# Altium footprint library Capacitors SMD.PcbLib: 115 footprints (part 4 of 8)
Each footprint in its own frame and in the unit in brackets; x right, y up, seen from the top. Pads: shape width x height; smd on the part's side, far side on the other; paste and mask are expansions set on the pad; w line width, h text height; cw(c..) or ccw(c..) is an arc to the next point about the centre after c.
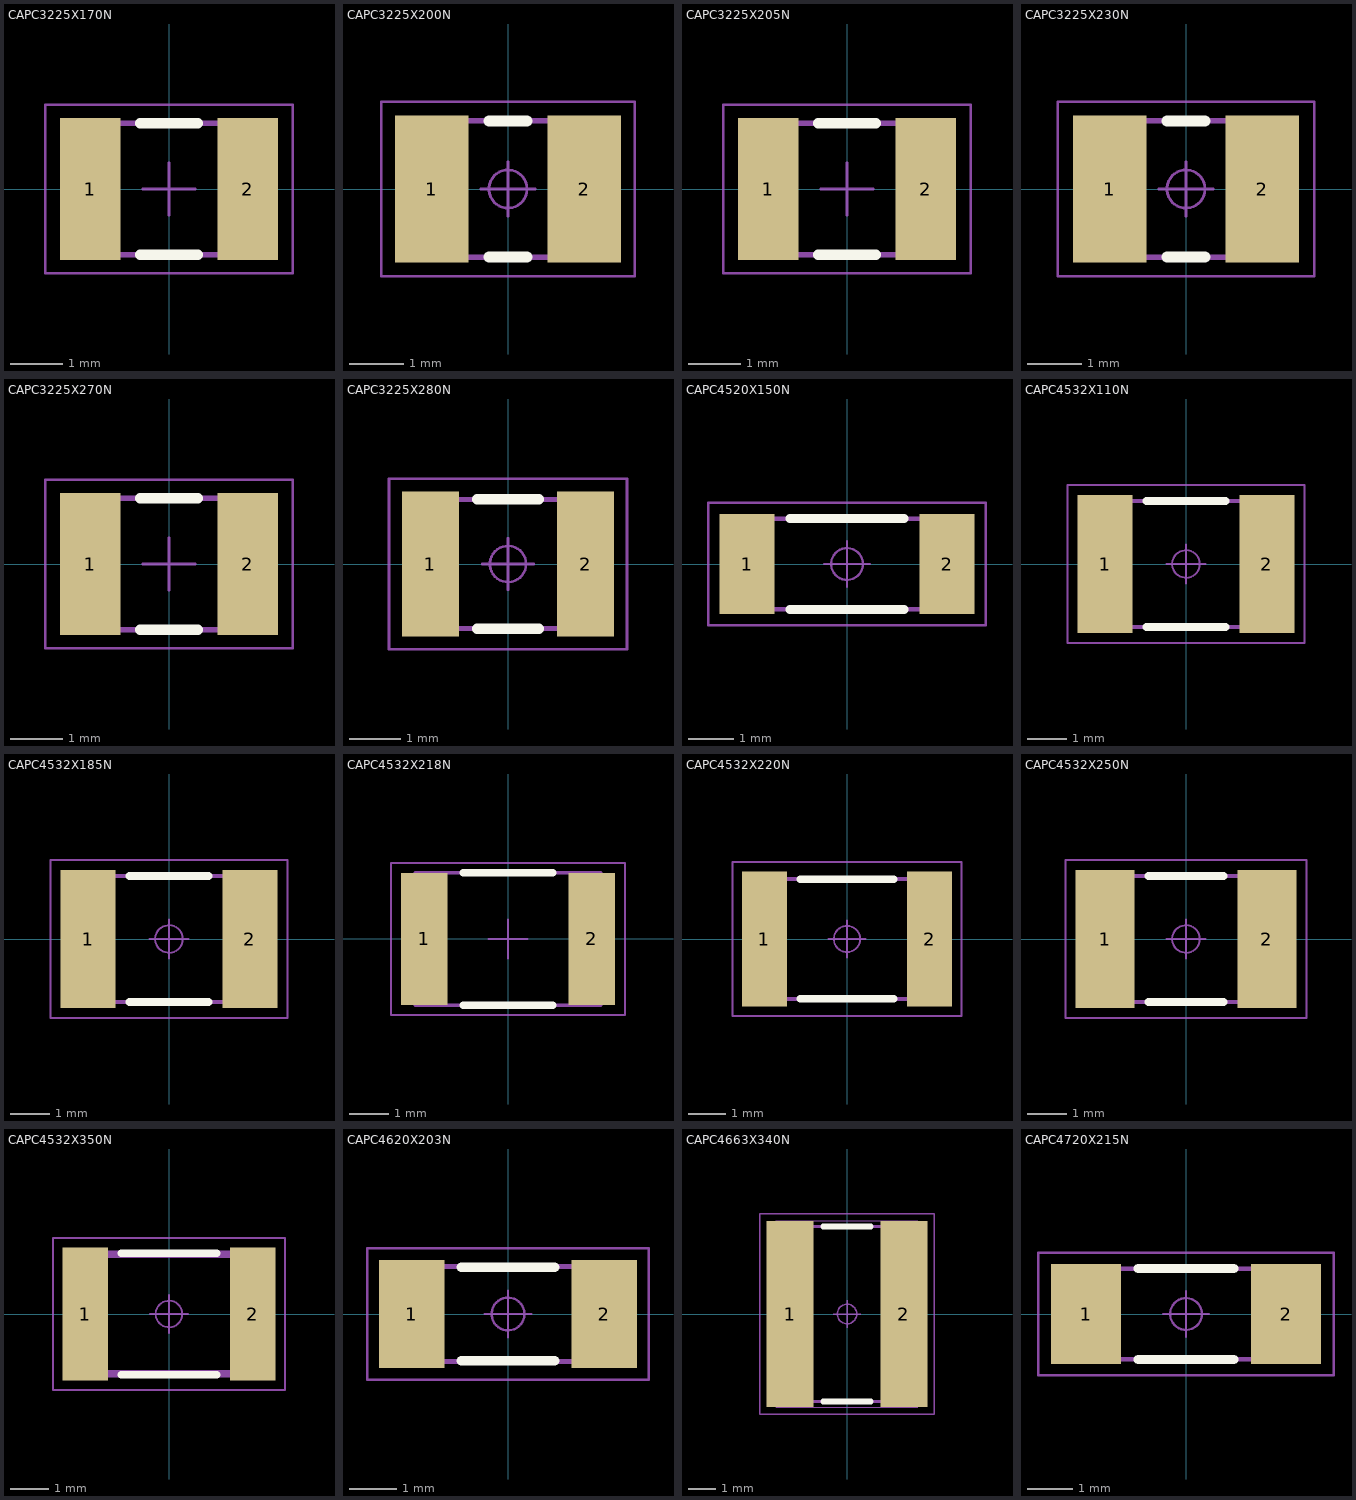
[diagram p3: the footprints below, top view; thin cyan lines are the x and y axes]

## CAPC3225X170N [mm] "Chip Capacitor, Body 3.2x2.5mm, IPC Medium Density"
height 1.7
pads (2):
  rect 1.15x2.7 smd: 1(-1.5,0) 2(1.5,0)
Top Overlay:
  lines w0.2: -0.55,-1.25 0.55,-1.25 ; -0.55,1.25 0.55,1.25
Mechanical 14:
  lines w0.1: -1.6,-1.25 1.6,-1.25 1.6,1.25 -1.6,1.25 -1.6,-1.25
Mechanical 15:
  lines w0.05: -0.5,0 0,0 ; 0,-0.5 0,0 ; 0,0.5 0,0 ; 0.5,0 0,0 ; -2.35,-1.6 2.35,-1.6 2.35,1.6 -2.35,1.6 -2.35,-1.6
3D body "CAPC3225X170N.stp": height 1.7, standoff 0, extent -1.7,-1.35 1.7,1.35

## CAPC3225X200N [mm] "Chip Capacitor, Body 3.2x2.5mm, IPC Medium Density"
height 2
pads (2):
  rect 1.35x2.7 smd: 1(-1.4,0) 2(1.4,0)
Top Overlay:
  lines w0.2: -0.35,-1.25 0.35,-1.25 ; -0.35,1.25 0.35,1.25
Mechanical 14:
  lines w0.1: -1.6,-1.25 1.6,-1.25 1.6,1.25 -1.6,1.25 -1.6,-1.25
Mechanical 15:
  circle w0.05: c0,0 r0.35
  lines w0.05: -0.5,0 0.5,0 ; 0,-0.5 0,0.5 ; -2.325,-1.6 2.325,-1.6 2.325,1.6 -2.325,1.6 -2.325,-1.6
3D body "CAPC3225X200N.stp": height 2, standoff 0, extent -1.7,-1.35 1.5,1.35

## CAPC3225X205N [mm] "Chip Capacitor, Body 3.2x2.5mm, IPC Medium Density"
height 2.05
pads (2):
  rect 1.15x2.7 smd: 1(-1.5,0) 2(1.5,0)
Top Overlay:
  lines w0.2: -0.55,-1.25 0.55,-1.25 ; -0.55,1.25 0.55,1.25
Mechanical 14:
  lines w0.1: -1.6,-1.25 1.6,-1.25 1.6,1.25 -1.6,1.25 -1.6,-1.25
Mechanical 15:
  lines w0.05: -2.35,-1.6 -2.35,1.6 2.35,1.6 2.35,-1.6 -2.35,-1.6 ; -0.5,0 0.5,0 -0.5,0 ; 0,-0.5 0,0.5 0,-0.5
3D body "CAPC3225X205N.stp": height 2.05, standoff 0, extent -1.7,-1.35 1.7,1.35

## CAPC3225X230N [mm] "Chip Capacitor, Body 3.2x2.5mm, IPC Medium Density"
height 2.3
pads (2):
  rect 1.35x2.7 smd: 1(-1.4,0) 2(1.4,0)
Top Overlay:
  lines w0.2: -0.35,-1.25 0.35,-1.25 ; -0.35,1.25 0.35,1.25
Mechanical 14:
  lines w0.1: -1.6,-1.25 1.6,-1.25 1.6,1.25 -1.6,1.25 -1.6,-1.25
Mechanical 15:
  circle w0.05: c0,0 r0.35
  lines w0.05: -0.5,0 0.5,0 ; 0,-0.5 0,0.5 ; -2.35,-1.6 2.35,-1.6 2.35,1.6 -2.35,1.6 -2.35,-1.6
3D body "CAPC3225X230N.stp": height 2.3, standoff 0, extent -1.7,-1.35 1.7,1.35

## CAPC3225X270N [mm] "Chip Capacitor, Body 3.2x2.5mm, IPC Medium Density"
height 2.7
pads (2):
  rect 1.15x2.7 smd: 1(-1.5,0) 2(1.5,0)
Top Overlay:
  lines w0.2: -0.55,-1.25 0.55,-1.25 ; -0.55,1.25 0.55,1.25
Mechanical 14:
  lines w0.1: -1.6,-1.25 1.6,-1.25 1.6,1.25 -1.6,1.25 -1.6,-1.25
Mechanical 15:
  lines w0.05: -2.35,-1.6 -2.35,1.6 2.35,1.6 2.35,-1.6 -2.35,-1.6 ; -0.5,0 0.5,0 -0.5,0 ; 0,-0.5 0,0.5 0,-0.5
3D body "CAPC3225X270N.stp": height 2.7, standoff 0, extent -1.7,-1.35 1.7,1.35

## CAPC3225X280N [mm] "Chip Capacitor, Body 3.2x2.5mm, IPC Medium Density"
height 2.8
pads (2):
  rect 1.1x2.8 smd: 1(-1.5,0) 2(1.5,0)
Top Overlay:
  lines w0.2: -0.6,-1.25 0.6,-1.25 ; -0.6,1.25 0.6,1.25
Mechanical 14:
  lines w0.1: -1.6,-1.25 1.6,-1.25 1.6,1.25 -1.6,1.25 -1.6,-1.25
Mechanical 15:
  circle w0.05: c0,0 r0.35
  lines w0.05: -0.5,0 0.5,0 ; 0,-0.5 0,0.5 ; -2.3,-1.65 2.3,-1.65 2.3,1.65 -2.3,1.65 -2.3,-1.65
3D body "CAPC3225X280N.stp": height 2.8, standoff 0, extent -1.7,-1.35 1.7,1.35

## CAPC4520X150N [mm] "Capacitor, Non-Polarized, Chip;4.50mm L X 2.00mm W X 1.50mm H, IPC Medium Density"
height 1.5
pads (2):
  rect 1.2x2.2 smd: 1(-2.2,0) 2(2.2,0)
Top Overlay:
  lines w0.2: -1.25,-1 1.25,-1 ; -1.25,1 1.25,1
Mechanical 14:
  lines w0.1: -2.25,-1 -2.25,1 2.25,1 2.25,-1 -2.25,-1
Mechanical 15:
  circle w0.05: c0,0 r0.35
  lines w0.05: -0.5,0 0.5,0 ; 0,-0.5 0,0.5 ; -3.05,-1.35 -3.05,1.35 3.05,1.35 3.05,-1.35 -3.05,-1.35
3D body "CAPC4520X150N.stp": height 1.5, standoff 0, extent -2.25,-1 2.25,1

## CAPC4532X110N [mm] "Chip Capacitor, 2-Leads, Body 4.5x3.2mm, IPC Medium Density"
height 1.1
pads (2):
  rect 1.4x3.5 smd: 1(-2.05,0) 2(2.05,0)
Top Overlay:
  lines w0.2: -1,-1.6 1,-1.6 ; -1,1.6 1,1.6
Mechanical 14:
  lines w0.1: -2.25,-1.6 -2.25,1.6 2.25,1.6 2.25,-1.6 -2.25,-1.6
Mechanical 15:
  circle w0.05: c0,0 r0.35
  lines w0.05: -0.5,0 0.5,0 ; 0,-0.5 0,0.5 ; -3,-2 -3,2 3,2 3,-2 -3,-2
3D body "CAPC4532X110N.stp": height 1.1, standoff 0, extent -2.25,-1.6 2.25,1.6

## CAPC4532X185N [mm] "Chip Capacitor, 2-Leads, Body 4.5x3.2mm, IPC Medium Density"
height 1.85
pads (2):
  rect 1.4x3.5 smd: 1(-2.05,0) 2(2.05,0)
Top Overlay:
  lines w0.2: -1,-1.6 1,-1.6 ; -1,1.6 1,1.6
Mechanical 14:
  lines w0.1: -2.25,-1.6 2.25,-1.6 2.25,1.6 -2.25,1.6 -2.25,-1.6
Mechanical 15:
  circle w0.05: c0,0 r0.35
  lines w0.05: -0.5,0 0.5,0 ; 0,-0.5 0,0.5 ; -3,-2 3,-2 3,2 -3,2 -3,-2
3D body "CAPC4532X185N.stp": height 1.85, standoff 0, extent -2.25,-1.6 2.25,1.6

## CAPC4532X218N [mm] "Chip Capacitor, 2-Leads, Body 4.5x3.2mm, IPC Medium Density"
height 2.18
pads (2):
  rect 1.2x3.4 smd: 1(-2.15,0) 2(2.15,0)
Top Overlay:
  lines w0.2: -1.15,-1.7 1.15,-1.7 ; -1.15,1.7 1.15,1.7
Mechanical 14:
  lines w0.1: -2.375,-1.7 2.375,-1.7 2.375,1.7 -2.375,1.7 -2.375,-1.7
Mechanical 15:
  lines w0.05: -0.5,0 0.5,0 ; 0,-0.5 0,0.5 ; -3,-1.95 3,-1.95 3,1.95 -3,1.95 -3,-1.95
3D body "CAPC4532X218N.stp": height 2.18, standoff 0, extent -2.375,-1.7 2.375,1.7

## CAPC4532X220N [mm] "Capacitor, Non-Polarized, Chip; 4.50mm L X 3.20mm W X 2.20mm H, IPC Medium Density"
height 2.2
pads (2):
  rect 1.2x3.6 smd: 1(-2.2,0) 2(2.2,0)
Top Overlay:
  lines w0.2: -1.25,-1.6 1.25,-1.6 ; -1.25,1.6 1.25,1.6
Mechanical 14:
  lines w0.1: -2.25,-1.6 2.25,-1.6 2.25,1.6 -2.25,1.6 -2.25,-1.6
Mechanical 15:
  circle w0.05: c0,0 r0.35
  lines w0.05: -0.5,0 0.5,0 ; 0,-0.5 0,0.5 ; -3.05,-2.05 3.05,-2.05 3.05,2.05 -3.05,2.05 -3.05,-2.05
3D body "CAPC4532X220N.stp": height 2.2, standoff 0, extent -2.45,-1.8 2.45,1.8

## CAPC4532X250N [mm] "Chip Capacitor, 2-Leads, Body 4.5x3.2mm, IPC Medium Density"
height 2.5
pads (2):
  rect 1.5x3.5 smd: 1(-2.05,0) 2(2.05,0)
Top Overlay:
  lines w0.2: -0.95,-1.6 0.95,-1.6 ; -0.95,1.6 0.95,1.6
Mechanical 14:
  lines w0.1: -2.25,-1.6 -2.25,1.6 2.25,1.6 2.25,-1.6 -2.25,-1.6
Mechanical 15:
  circle w0.05: c0,0 r0.35
  lines w0.05: -0.5,0 0.5,0 ; 0,-0.5 0,0.5 ; -3.05,-2 -3.05,2 3.05,2 3.05,-2 -3.05,-2
3D body "CAPC4532X250N.stp": height 2.5, standoff 0, extent -2.375,-1.7 2.375,1.7

## CAPC4532X350N [mm] "Chip Capacitor, 2-Leads, Body 4.5x3.2mm, IPC Medium Density"
height 3.5
pads (2):
  rect 1.2x3.5 smd: 1(-2.2,0) 2(2.2,0)
Top Overlay:
  lines w0.2: -1.25,-1.6 1.25,-1.6 ; -1.25,1.6 1.25,1.6
Mechanical 14:
  lines w0.2: -2.25,-1.575 2.25,-1.575 2.25,1.575 -2.25,1.575 -2.25,-1.575
Mechanical 15:
  circle w0.05: c0,0 r0.35
  lines w0.05: -0.5,0 0.5,0 ; 0,-0.5 0,0.5 ; -3.05,-2 3.05,-2 3.05,2 -3.05,2 -3.05,-2
3D body "CAPC4532X350N.stp": height 3.5, standoff 0, extent -2.45,-1.8 2.45,1.8

## CAPC4620X203N [mm] "Capacitor, Non-Polarized, Chip; 4.57mm L X 2.03mm W X 2.03mm H, IPC Medium Density"
height 2.03
pads (2):
  rect 1.4x2.3 smd: 1(-2.05,0) 2(2.05,0)
Top Overlay:
  lines w0.2: -1,-1 1,-1 ; -1,1 1,1
Mechanical 14:
  lines w0.1: -2.285,-1.015 2.285,-1.015 2.285,1.015 -2.285,1.015 -2.285,-1.015
Mechanical 15:
  circle w0.05: c0,0 r0.35
  lines w0.05: -0.5,0 0.5,0 ; 0,-0.5 0,0.5 ; -3,-1.4 3,-1.4 3,1.4 -3,1.4 -3,-1.4
3D body "CAPC4620X203N.stp": height 2.03, standoff 0, extent -2.285,-1.015 2.285,1.015

## CAPC4663X340N [mm] "Capacitor, Non-Polarized, Chip; 4.60mm L X 6.30mm W X 3.40mm H, IPC Medium Density"
height 3.4
pads (2):
  rect 1.7x6.7 smd: 1(-2.05,0) 2(2.05,0)
Top Overlay:
  lines w0.2: -0.85,-3.15 0.85,-3.15 ; -0.85,3.15 0.85,3.15
Mechanical 8:
  lines w0.001: -2.55,-3.35 -2.55,3.35 2.55,3.35 2.55,-3.35 -2.55,-3.35
Mechanical 14:
  lines w0.1: -2.3,-3.15 -2.3,3.15 2.3,3.15 2.3,-3.15 -2.3,-3.15
Mechanical 15:
  circle w0.05: c0,0 r0.35
  lines w0.05: -0.5,0 0.5,0 ; 0,-0.5 0,0.5 ; -3.15,-3.6 -3.15,3.6 3.15,3.6 3.15,-3.6 -3.15,-3.6
3D body "CAPC4663X340N.stp": height 3.4, standoff 0, extent -2.55,-3.35 2.55,3.35

## CAPC4720X215N [mm] "Capacitor, Non-Polarized, Chip; 4.7mm L X 2mm W X 2.15mm H, IPC Medium Density"
height 2.15
pads (2):
  rect 1.55x2.2 smd: 1(-2.2,0) 2(2.2,0)
Top Overlay:
  lines w0.2: -1.05,-1 1.05,-1 ; -1.05,1 1.05,1
Mechanical 14:
  lines w0.1: -2.35,-1 2.35,-1 2.35,1 -2.35,1 -2.35,-1
Mechanical 15:
  circle w0.05: c0,0 r0.35
  lines w0.05: -0.5,0 0.5,0 ; 0,-0.5 0,0.5 ; -3.25,-1.35 3.25,-1.35 3.25,1.35 -3.25,1.35 -3.25,-1.35
3D body "CAPC4720X215N.stp": height 2.15, standoff 0, extent -2.35,-1 2.35,1